# EAGLE library part SI1147-M01 (library SI1147-M01)
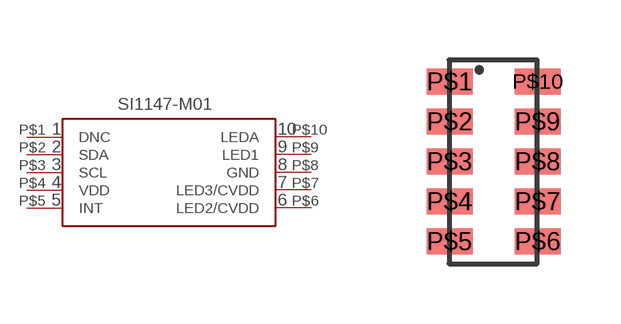
[diagram p0: symbol with the pads of SI1147-M01; footprint SI1147-M01]

Designator prefix SI1147-M01

## SI1147-M01  [SI1147-M01]
P$1  DNC
P$2  SDA
P$3  SCL
P$4  VDD
P$5  INT
P$6  LED2/CVDD
P$7  LED3/CVDD
P$8  GND
P$9  LED1
P$10  LEDA

## Footprint SI1147-M01 (pad centres in mm)
smd 1.15 x 0.65: P$1 -1.09,2.01; P$2 -1.09,1.01; P$3 -1.09,0.01; P$4 -1.09,-0.99; P$5 -1.09,-1.99; P$6 1.11,-1.99; P$7 1.11,-0.99; P$8 1.11,0.01; P$9 1.11,1.01; P$10 1.11,2.01